# Altium footprint library 17-Relays.PcbLib: 68 footprints (part 5 of 5)
Each footprint in its own frame and in the unit in brackets; x right, y up, seen from the top. Pads: shape width x height; smd on the part's side, far side on the other; paste and mask are expansions set on the pad; w line width, h text height; cw(c..) or ccw(c..) is an arc to the next point about the centre after c.
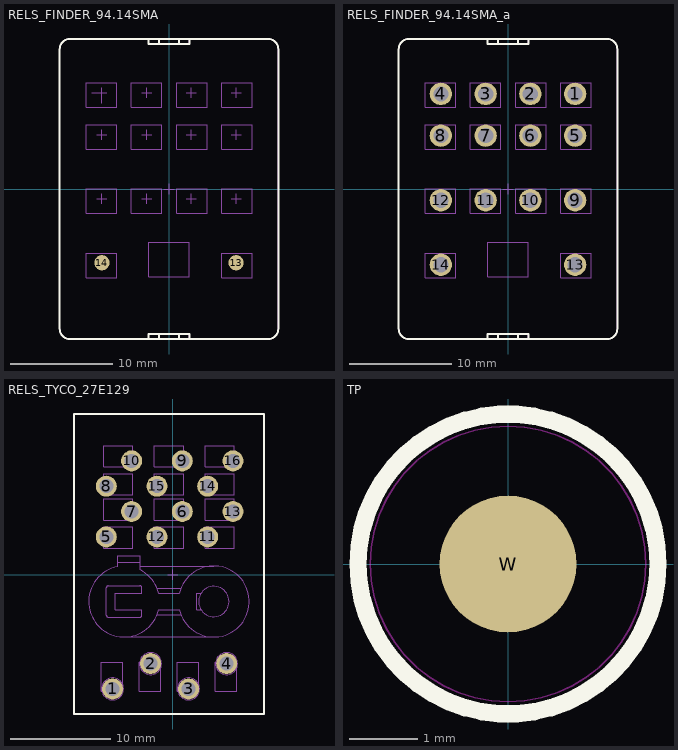
[diagram p4: the footprints below, top view; thin cyan lines are the x and y axes]

## RELS_FINDER_94.14SMA [mm] "Graphical Model for Relay Socket, FINDER_94.14 Serie (Do Not Use Alone, Use Only With Relay)"
height 11.5
pads (2):
  round 1.5 smd paste-0.76 mask-0.76: 13(6.6,-7.25) 14(-6.6,-7.25)
Top Overlay:
  lines w0.2: -2,-14.75 -2,-14.25 2,-14.25 2,-14.75 ; -2,14.75 -2,14.25 2,14.25 2,14.75 ; -1,-14.75 -1,-14.25 ; -1,14.25 -1,14.75 ; 1,-14.75 1,-14.25 ; 1,14.25 1,14.75 ; -10.75,-13.75 ccw(c-9.75,-13.75) -9.75,-14.75 9.75,-14.75 ccw(c9.75,-13.75) 10.75,-13.75 10.75,13.75 ccw(c9.75,13.75) 9.75,14.75 -9.75,14.75 ccw(c-9.75,13.75) -10.75,13.75 -10.75,-13.75
Mechanical 8:
  lines w0.1: -7.6,9.45 -6.6,9.45 ; -7.1,-7.25 -6.6,-7.25 ; -7.1,-0.95 -6.6,-0.95 ; -7.1,5.35 -6.6,5.35 ; -7.1,9.45 -6.6,9.45 ; -6.6,-7.75 -6.6,-7.25 ; -6.6,-6.75 -6.6,-7.25 ; -6.6,-1.45 -6.6,-0.95 ; -6.6,-0.45 -6.6,-0.95 ; -6.6,4.85 -6.6,5.35 ; -6.6,5.85 -6.6,5.35 ; -6.6,8.45 -6.6,9.45 ; -6.6,8.95 -6.6,9.45 ; -6.6,9.95 -6.6,9.45 ; -6.1,-7.25 -6.6,-7.25 ; -6.1,-0.95 -6.6,-0.95 ; -6.1,5.35 -6.6,5.35 ; -6.1,9.45 -6.6,9.45 ; -2.7,-0.95 -2.2,-0.95 ; -2.7,5.35 -2.2,5.35 ; -2.7,9.45 -2.2,9.45 ; -2.2,-1.45 -2.2,-0.95 ; -2.2,-0.45 -2.2,-0.95 ; -2.2,4.85 -2.2,5.35 ; -2.2,5.85 -2.2,5.35 ; -2.2,8.95 -2.2,9.45 ; -2.2,9.95 -2.2,9.45 ; -1.7,-0.95 -2.2,-0.95 ; -1.7,5.35 -2.2,5.35 ; -1.7,9.45 -2.2,9.45 ; -0.5,0 0,0 ; 0,-0.5 0,0 ; 0,0.5 0,0 ; 0.5,0 0,0 ; 1.7,-0.95 2.2,-0.95 ; 1.7,5.35 2.2,5.35 ; 1.7,9.45 2.2,9.45 ; 2.2,-1.45 2.2,-0.95 ; 2.2,-0.45 2.2,-0.95 ; 2.2,4.85 2.2,5.35 ; 2.2,5.85 2.2,5.35 ; 2.2,8.95 2.2,9.45 ; 2.2,9.95 2.2,9.45 ; 2.7,-0.95 2.2,-0.95 ; 2.7,5.35 2.2,5.35 ; 2.7,9.45 2.2,9.45 ; 6.1,-7.25 6.6,-7.25 ; 6.1,-0.95 6.6,-0.95 ; 6.1,5.35 6.6,5.35 ; 6.1,9.45 6.6,9.45 ; 6.6,-7.75 6.6,-7.25 ; 6.6,-6.75 6.6,-7.25 ; 6.6,-1.45 6.6,-0.95 ; 6.6,-0.45 6.6,-0.95 ; 6.6,4.85 6.6,5.35 ; 6.6,5.85 6.6,5.35 ; 6.6,8.95 6.6,9.45 ; 6.6,9.95 6.6,9.45 ; 7.1,-7.25 6.6,-7.25 ; 7.1,-0.95 6.6,-0.95 ; 7.1,5.35 6.6,5.35 ; 7.1,9.45 6.6,9.45
  text "14" at -7.9,-8.55 h1.5
  text "13" at 5.3,-8.55 h1.5
  text "12" at -7.85,-1.95 h1.5
  text "4" at -7.9,8.8 h1.5
  text "8" at -7.9,4.8 h1.5
  text "Must be Used with" at -6.5,-3.8 h0.95
  text "7" at -3.5,4.8 h1.5
  text "3" at -3.5,8.9 h1.5
  text "2" at 0.9,8.9 h1.5
  text "6" at 0.9,4.8 h1.5
  text "11" at -3.5,-1.5 h1.5
  text "10" at 0.9,-2 h1.5
  text "9" at 5.3,-1.5 h1.5
  text "5" at 5.3,4.8 h1.5
  text "1" at 5.3,8.9 h1.5
  text "FINDER 55.32 Relay" at -6.55,-5.533 h0.95
Mechanical 14:
  lines w0.1: -2,-14.75 -2,-14.25 2,-14.25 2,-14.75 ; -2,14.75 -2,14.25 2,14.25 2,14.75 ; -1,-14.75 -1,-14.25 ; -1,14.25 -1,14.75 ; 1,-14.75 1,-14.25 ; 1,14.25 1,14.75 ; -10.75,-13.75 ccw(c-9.75,-13.75) -9.75,-14.75 9.75,-14.75 ccw(c9.75,-13.75) 10.75,-13.75 10.75,13.75 ccw(c9.75,13.75) 9.75,14.75 -9.75,14.75 ccw(c-9.75,13.75) -10.75,13.75 -10.75,-13.75 ; -8.142,-8.719 -8.142,-6.319 -5.142,-6.319 -5.142,-8.719 -8.142,-8.719 ; -8.142,-2.369 -5.142,-2.369 -5.142,0.031 -8.142,0.031 -8.142,-2.369 ; -8.142,3.931 -8.142,6.331 -5.142,6.331 -5.142,3.931 -8.142,3.931 ; -8.142,8.031 -8.142,10.431 -5.142,10.431 -5.142,8.031 -8.142,8.031 ; -3.701,-2.369 -3.701,0.031 -0.701,0.031 -0.701,-2.369 -3.701,-2.369 ; -3.701,3.931 -0.701,3.931 -0.701,6.331 -3.701,6.331 -3.701,3.931 ; -3.701,8.031 -0.701,8.031 -0.701,10.431 -3.701,10.431 -3.701,8.031 ; -2,-8.65 -2,-5.25 2,-5.25 2,-8.65 -2,-8.65 ; 0.748,-2.369 0.748,0.031 3.748,0.031 3.748,-2.369 0.748,-2.369 ; 0.748,3.931 0.748,6.331 3.748,6.331 3.748,3.931 0.748,3.931 ; 0.748,8.031 0.748,10.431 3.748,10.431 3.748,8.031 0.748,8.031 ; 5.188,-8.719 8.188,-8.719 8.188,-6.319 5.188,-6.319 5.188,-8.719 ; 5.188,-2.369 5.188,0.031 8.188,0.031 8.188,-2.369 5.188,-2.369 ; 5.188,3.931 8.188,3.931 8.188,6.331 5.188,6.331 5.188,3.931 ; 5.188,8.031 8.188,8.031 8.188,10.431 5.188,10.431 5.188,8.031
3D body "RELS_FINDER_94.14SMA.stp": height 11.5, standoff -3.7, extent -10.75,-14.75 10.75,14.75

## RELS_FINDER_94.14SMA_a [mm] "14 Leads Relay Socket, Row Spacing 4.4mm; Body 21.5mm x 29.5mm, FINDER_94.14 Serie (Use Only Without Relay)"
height 11.5
pads (14):
  round 2.2 hole 1.5: 1(6.6,9.35) 2(2.2,9.35) 3(-2.2,9.35) 4(-6.6,9.35) 5(6.6,5.25) 6(2.2,5.25) 7(-2.2,5.25) 8(-6.6,5.25) 9(6.6,-1.1) 10(2.2,-1.1) 11(-2.2,-1.1) 12(-6.6,-1.1) 13(6.6,-7.45) 14(-6.6,-7.45)
Top Overlay:
  lines w0.2: -2,-14.75 -2,-14.25 2,-14.25 2,-14.75 ; -2,14.75 -2,14.25 2,14.25 2,14.75 ; -1,-14.75 -1,-14.25 ; -1,14.25 -1,14.75 ; 1,-14.75 1,-14.25 ; 1,14.25 1,14.75 ; -10.75,-13.75 ccw(c-9.75,-13.75) -9.75,-14.75 9.75,-14.75 ccw(c9.75,-13.75) 10.75,-13.75 10.75,13.75 ccw(c9.75,13.75) 9.75,14.75 -9.75,14.75 ccw(c-9.75,13.75) -10.75,13.75 -10.75,-13.75
Mechanical 8:
  lines w0.1: -7.6,9.45 -6.6,9.45 ; -7.1,-7.25 -6.6,-7.25 ; -7.1,-0.95 -6.6,-0.95 ; -7.1,5.35 -6.6,5.35 ; -7.1,9.45 -6.6,9.45 ; -6.6,-7.75 -6.6,-7.25 ; -6.6,-6.75 -6.6,-7.25 ; -6.6,-1.45 -6.6,-0.95 ; -6.6,-0.45 -6.6,-0.95 ; -6.6,4.85 -6.6,5.35 ; -6.6,5.85 -6.6,5.35 ; -6.6,8.45 -6.6,9.45 ; -6.6,8.95 -6.6,9.45 ; -6.6,9.95 -6.6,9.45 ; -6.1,-7.25 -6.6,-7.25 ; -6.1,-0.95 -6.6,-0.95 ; -6.1,5.35 -6.6,5.35 ; -6.1,9.45 -6.6,9.45 ; -2.7,-0.95 -2.2,-0.95 ; -2.7,5.35 -2.2,5.35 ; -2.7,9.45 -2.2,9.45 ; -2.2,-1.45 -2.2,-0.95 ; -2.2,-0.45 -2.2,-0.95 ; -2.2,4.85 -2.2,5.35 ; -2.2,5.85 -2.2,5.35 ; -2.2,8.95 -2.2,9.45 ; -2.2,9.95 -2.2,9.45 ; -1.7,-0.95 -2.2,-0.95 ; -1.7,5.35 -2.2,5.35 ; -1.7,9.45 -2.2,9.45 ; -0.5,0 0,0 ; 0,-0.5 0,0 ; 0,0.5 0,0 ; 0.5,0 0,0 ; 1.7,-0.95 2.2,-0.95 ; 1.7,5.35 2.2,5.35 ; 1.7,9.45 2.2,9.45 ; 2.2,-1.45 2.2,-0.95 ; 2.2,-0.45 2.2,-0.95 ; 2.2,4.85 2.2,5.35 ; 2.2,5.85 2.2,5.35 ; 2.2,8.95 2.2,9.45 ; 2.2,9.95 2.2,9.45 ; 2.7,-0.95 2.2,-0.95 ; 2.7,5.35 2.2,5.35 ; 2.7,9.45 2.2,9.45 ; 6.1,-7.25 6.6,-7.25 ; 6.1,-0.95 6.6,-0.95 ; 6.1,5.35 6.6,5.35 ; 6.1,9.45 6.6,9.45 ; 6.6,-7.75 6.6,-7.25 ; 6.6,-6.75 6.6,-7.25 ; 6.6,-1.45 6.6,-0.95 ; 6.6,-0.45 6.6,-0.95 ; 6.6,4.85 6.6,5.35 ; 6.6,5.85 6.6,5.35 ; 6.6,8.95 6.6,9.45 ; 6.6,9.95 6.6,9.45 ; 7.1,-7.25 6.6,-7.25 ; 7.1,-0.95 6.6,-0.95 ; 7.1,5.35 6.6,5.35 ; 7.1,9.45 6.6,9.45
  text "12" at -7.85,-1.95 h1.5
  text "4" at -7.9,8.8 h1.5
  text "8" at -7.9,4.8 h1.5
  text "7" at -3.5,4.8 h1.5
  text "3" at -3.5,8.9 h1.5
  text "2" at 0.9,8.9 h1.5
  text "6" at 0.9,4.8 h1.5
  text "11" at -3.5,-1.5 h1.5
  text "10" at 0.9,-2 h1.5
  text "9" at 5.3,-1.5 h1.5
  text "5" at 5.3,4.8 h1.5
  text "1" at 5.3,8.9 h1.5
  text "13" at 5.3,-8.55 h1.5
  text "14" at -7.9,-8.55 h1.5
Mechanical 14:
  lines w0.1: -2,-14.75 -2,-14.25 2,-14.25 2,-14.75 ; -2,14.75 -2,14.25 2,14.25 2,14.75 ; -1,-14.75 -1,-14.25 ; -1,14.25 -1,14.75 ; 1,-14.75 1,-14.25 ; 1,14.25 1,14.75 ; -10.75,-13.75 ccw(c-9.75,-13.75) -9.75,-14.75 9.75,-14.75 ccw(c9.75,-13.75) 10.75,-13.75 10.75,13.75 ccw(c9.75,13.75) 9.75,14.75 -9.75,14.75 ccw(c-9.75,13.75) -10.75,13.75 -10.75,-13.75 ; -8.142,-8.719 -8.142,-6.319 -5.142,-6.319 -5.142,-8.719 -8.142,-8.719 ; -8.142,-2.369 -5.142,-2.369 -5.142,0.031 -8.142,0.031 -8.142,-2.369 ; -8.142,3.931 -8.142,6.331 -5.142,6.331 -5.142,3.931 -8.142,3.931 ; -8.142,8.031 -8.142,10.431 -5.142,10.431 -5.142,8.031 -8.142,8.031 ; -3.701,-2.369 -3.701,0.031 -0.701,0.031 -0.701,-2.369 -3.701,-2.369 ; -3.701,3.931 -0.701,3.931 -0.701,6.331 -3.701,6.331 -3.701,3.931 ; -3.701,8.031 -0.701,8.031 -0.701,10.431 -3.701,10.431 -3.701,8.031 ; -2,-8.65 -2,-5.25 2,-5.25 2,-8.65 -2,-8.65 ; 0.748,-2.369 0.748,0.031 3.748,0.031 3.748,-2.369 0.748,-2.369 ; 0.748,3.931 0.748,6.331 3.748,6.331 3.748,3.931 0.748,3.931 ; 0.748,8.031 0.748,10.431 3.748,10.431 3.748,8.031 0.748,8.031 ; 5.188,-8.719 8.188,-8.719 8.188,-6.319 5.188,-6.319 5.188,-8.719 ; 5.188,-2.369 5.188,0.031 8.188,0.031 8.188,-2.369 5.188,-2.369 ; 5.188,3.931 8.188,3.931 8.188,6.331 5.188,6.331 5.188,3.931 ; 5.188,8.031 8.188,8.031 8.188,10.431 5.188,10.431 5.188,8.031
3D body "RELS_FINDER_94.14SMA.stp": height 11.5, standoff -3.7, extent -10.75,-14.75 10.75,14.75

## RELS_TYCO_27E129 [mm] "16 Contacts PCB Socket For TYCO R10 Serie Relays"
height 10.64
pads (16):
  round 2.1 hole 1.4: 1(-6.033,-11.43) 2(-2.222,-8.89) 3(1.587,-11.43) 4(5.398,-8.89) 5(-6.668,3.81) 6(0.953,6.35) 7(-4.128,6.35) 8(-6.668,8.89) 9(0.953,11.43) 10(-4.128,11.43) 11(3.493,3.81) 12(-1.587,3.81) 13(6.033,6.35) 14(3.493,8.89) 15(-1.587,8.89) 16(6.033,11.43)
Top Overlay:
  lines w0.2: -9.906,-13.945 -9.906,16.129 9.144,16.129 9.144,-13.945 -9.906,-13.945
Mechanical 8:
  circle w0.1: c5.398,-8.89 r1.1
  circle w0.1: c1.587,-11.43 r1.1
  circle w0.1: c-2.222,-8.89 r1.1
  circle w0.1: c-6.033,-11.43 r1.1
  lines w0.1: -7.168,3.81 -6.668,3.81 ; -7.168,8.89 -6.668,8.89 ; -6.668,3.31 -6.668,3.81 ; -6.668,4.31 -6.668,3.81 ; -6.668,8.39 -6.668,8.89 ; -6.668,9.39 -6.668,8.89 ; -6.533,-11.43 -6.033,-11.43 ; -6.168,3.81 -6.668,3.81 ; -6.168,8.89 -6.668,8.89 ; -6.033,-11.93 -6.033,-11.43 ; -6.033,-10.93 -6.033,-11.43 ; -5.533,-11.43 -6.033,-11.43 ; -4.628,6.35 -4.128,6.35 ; -4.628,11.43 -4.128,11.43 ; -4.128,5.85 -4.128,6.35 ; -4.128,6.85 -4.128,6.35 ; -4.128,10.93 -4.128,11.43 ; -4.128,11.93 -4.128,11.43 ; -3.628,6.35 -4.128,6.35 ; -3.628,11.43 -4.128,11.43 ; -2.723,-8.89 -2.222,-8.89 ; -2.222,-9.39 -2.222,-8.89 ; -2.222,-8.39 -2.222,-8.89 ; -2.088,3.81 -1.587,3.81 ; -2.088,8.89 -1.587,8.89 ; -1.723,-8.89 -2.222,-8.89 ; -1.587,3.31 -1.587,3.81 ; -1.587,4.31 -1.587,3.81 ; -1.587,8.39 -1.587,8.89 ; -1.587,9.39 -1.587,8.89 ; -1.088,3.81 -1.587,3.81 ; -1.088,8.89 -1.587,8.89 ; -0.5,0 0,0 ; 0,-0.5 0,0 ; 0,0.5 0,0 ; 0.453,6.35 0.953,6.35 ; 0.453,11.43 0.953,11.43 ; 0.5,0 0,0 ; 0.953,5.85 0.953,6.35 ; 0.953,6.85 0.953,6.35 ; 0.953,10.93 0.953,11.43 ; 0.953,11.93 0.953,11.43 ; 1.088,-11.43 1.587,-11.43 ; 1.453,6.35 0.953,6.35 ; 1.453,11.43 0.953,11.43 ; 1.587,-11.93 1.587,-11.43 ; 1.587,-10.93 1.587,-11.43 ; 2.088,-11.43 1.587,-11.43 ; 2.993,3.81 3.493,3.81 ; 2.993,8.89 3.493,8.89 ; 3.493,3.31 3.493,3.81 ; 3.493,4.31 3.493,3.81 ; 3.493,8.39 3.493,8.89 ; 3.493,9.39 3.493,8.89 ; 3.993,3.81 3.493,3.81 ; 3.993,8.89 3.493,8.89 ; 4.898,-8.89 5.398,-8.89 ; 5.398,-9.39 5.398,-8.89 ; 5.398,-8.39 5.398,-8.89 ; 5.533,6.35 6.033,6.35 ; 5.533,11.43 6.033,11.43 ; 5.898,-8.89 5.398,-8.89 ; 6.033,5.85 6.033,6.35 ; 6.033,6.85 6.033,6.35 ; 6.033,10.93 6.033,11.43 ; 6.033,11.93 6.033,11.43 ; 6.533,6.35 6.033,6.35 ; 6.533,11.43 6.033,11.43
Mechanical 14:
  circle w0.1: c4.115,-2.667 r1.524
  lines w0.1: -5.512,1.27 -3.277,1.27 ; -4.877,-6.223 4.115,-6.223 ; -3.277,0.889 4.115,0.889 ; -1.58,-4.001 0.818,-4.001 ; -1.58,-1.333 0.818,-1.333 ; 2.834,-3.493 2.4,-3.493 2.4,-1.841 2.834,-1.841 ; -9.906,-13.945 -9.906,16.129 9.144,16.129 9.144,-13.945 -9.906,-13.945 ; -7.163,-11.659 -7.163,-8.738 -5.029,-8.738 -5.029,-11.659 -7.163,-11.659 ; -6.922,2.692 -4.001,2.692 -4.001,4.826 -6.922,4.826 -6.922,2.692 ; -6.922,5.486 -4.001,5.486 -4.001,7.62 -6.922,7.62 -6.922,5.486 ; -6.922,8.026 -4.001,8.026 -4.001,10.16 -6.922,10.16 -6.922,8.026 ; -6.922,10.82 -4.001,10.82 -4.001,12.954 -6.922,12.954 -6.922,10.82 ; -6.655,-4.044 ccw(c-6.457,-4.044) -6.457,-4.242 -3.297,-4.242 ccw(c-3.297,-4.044) -3.099,-4.044 -3.099,-3.493 -5.791,-3.493 -5.791,-1.841 -3.099,-1.841 -3.099,-1.29 ccw(c-3.297,-1.29) -3.297,-1.092 -6.457,-1.092 ccw(c-6.457,-1.29) -6.655,-1.29 -6.655,-4.044 ; -5.512,0.832 ccw(c-4.877,-2.667) -1.418,-3.493 0.656,-3.493 ccw(c4.115,-2.667) 0.656,-1.842 -1.418,-1.841 ccw(c-4.877,-2.667) -3.277,0.509 -3.277,1.905 -5.512,1.905 -5.512,0.832 ; -3.353,-11.659 -3.353,-8.738 -1.219,-8.738 -1.219,-11.659 -3.353,-11.659 ; -1.841,2.692 1.079,2.692 1.079,4.826 -1.841,4.826 -1.841,2.692 ; -1.841,5.486 1.079,5.486 1.079,7.62 -1.841,7.62 -1.841,5.486 ; -1.841,8.026 1.079,8.026 1.079,10.16 -1.841,10.16 -1.841,8.026 ; -1.841,10.82 1.079,10.82 1.079,12.954 -1.841,12.954 -1.841,10.82 ; 0.457,-11.659 0.457,-8.738 2.591,-8.738 2.591,-11.659 0.457,-11.659 ; 3.239,2.692 3.239,4.826 6.16,4.826 6.16,2.692 3.239,2.692 ; 3.239,5.486 6.16,5.486 6.16,7.62 3.239,7.62 3.239,5.486 ; 3.239,8.026 6.16,8.026 6.16,10.16 3.239,10.16 3.239,8.026 ; 3.239,10.82 6.16,10.82 6.16,12.954 3.239,12.954 3.239,10.82 ; 4.267,-11.659 4.267,-8.738 6.401,-8.738 6.401,-11.659 4.267,-11.659
  text "1" at -6.346,-10.127 h1
  text "2" at -2.653,-11.066 h1
  text "3" at 1.153,-10.127 h1
  text "4" at 4.934,-11.066 h1
  text "5" at -5.362,3.31 h1
  text "12" at -0.541,3.31 h1
  text "11" at 4.669,3.31 h1
  text "6" at -1.196,5.85 h1
  text "7" at -6.281,5.85 h1
  text "8" at -5.341,8.39 h1
  text "15" at -0.532,8.39 h1
  text "14" at 4.519,8.39 h1
  text "16" at 3.604,10.93 h1
  text "9" at -1.218,10.93 h1
  text "10" at -6.531,10.93 h1
  text "13" at 3.608,5.85 h1
3D body "TYCO_27E129.stp": height 10.64, standoff -3.58, extent -9.906,-13.945 9.144,16.129

## TP [mm]
height 11.7
pads (1):
  round 2 smd mask+1: W(0,0)
Top Overlay:
  circle w0.254: c0,0 r2.195
Keep-Out Layer:
  circle w0.025: c0,0 r2.017
3D body "1_016-1_016-3_tp.stp": height 0.02, standoff 0, extent -1.5,-1.5 1.5,1.5